# Altium schematic symbol library MCP2515.SchLib: 1 symbol
Pins are listed as number, name and electrical type; pins without a type are passive.

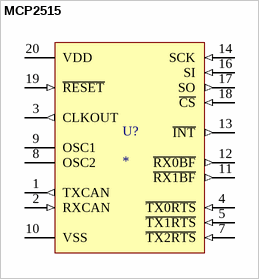
[diagram p0: symbol MCP2515]

## MCP2515
designator U?
MICROCHIP - MCP2515-I/ST - CAN CONTROLLER, SMD, 2515, TSSOP20; farnell: 1196851
footprint MCP2515 (MICROCHIP - MCP2515-I/ST - CAN CONTROLLER, SMD, 2515, TSSOP20)
pins: 1 TXCAN (out), 2 RXCAN (in), 3 CLKOUT (out), 4 ~{TX0RTS} (in), 5 ~{TX1RTS} (in), 7 ~{TX2RTS} (in), 8 OSC2, 9 OSC1, 10 VSS (power), 11 ~{RX1BF} (out), 12 ~{RX0BF} (out), 13 ~{INT} (out), 14 SCK (in), 16 SI (in), 17 SO (out), 18 ~{CS} (in), 19 ~{RESET} (in), 20 VDD (power)